# Altium footprint library SparkFun-Switches.PCBLIB: 68 footprints (part 7 of 7)
Each footprint in its own frame and in the unit in brackets; x right, y up, seen from the top. Pads: shape width x height; smd on the part's side, far side on the other; paste and mask are expansions set on the pad; w line width, h text height; cw(c..) or ccw(c..) is an arc to the next point about the centre after c.
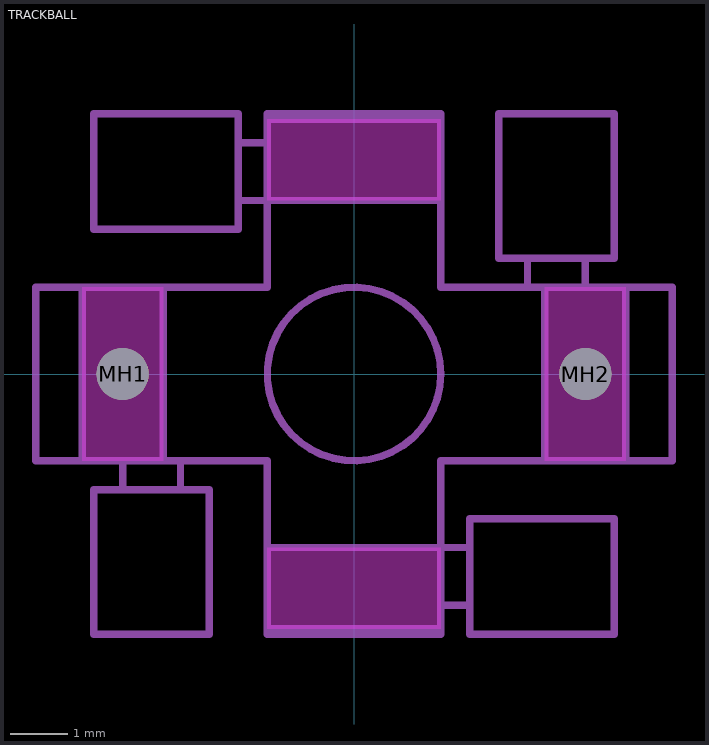
[diagram p6: the footprint, top view; thin cyan lines are the x and y axes]

## TRACKBALL [mm]
pads (2):
  round 0.9 hole 0.9 unplated: MH1(-4,0) MH2(4,0)
Top keep-out:
  region: -4.7,-1.5 -4.7,1.5 -3.3,1.5 -3.3,-1.5
  region: -1.5,3 -1.5,4.4 1.5,4.4 1.5,3
  region: 3.3,-1.5 3.3,1.5 4.7,1.5 4.7,-1.5
  region: -1.5,-4.4 -1.5,-3 1.5,-3 1.5,-4.4
tDocu:
  circle w0.127: c0,0 r1.5
  lines w0.127: -4,-2 -4,-1.5 ; -3,-2 -3,-1.5 ; -2,3 -1.5,3 ; -2,4 -1.5,4 ; 2,-4 1.5,-4 ; 2,-3 1.5,-3 ; 3,2 3,1.5 ; 4,2 4,1.5 ; -4,-1.5 -5.5,-1.5 -5.5,1.5 -1.5,1.5 -1.5,3 ; -4,-1.5 -3,-1.5 ; -3,-1.5 -1.5,-1.5 -1.5,-4.5 1.5,-4.5 1.5,-4 ; -1.5,3 -1.5,4 ; -1.5,4 -1.5,4.5 1.5,4.5 1.5,1.5 3,1.5 ; 1.5,-4 1.5,-3 ; 1.5,-3 1.5,-1.5 5.5,-1.5 5.5,1.5 4,1.5 ; 3,1.5 4,1.5
Measures:
  lines w0.127: -4.7,-1.5 -4.7,1.5 -3.3,1.5 -3.3,-1.5 -4.7,-1.5 ; -4.5,-4.5 -2.5,-4.5 -2.5,-2 -4.5,-2 -4.5,-4.5 ; -4.5,2.5 -2,2.5 -2,4.5 -4.5,4.5 -4.5,2.5 ; -1.5,-4.4 1.5,-4.4 1.5,-3 -1.5,-3 -1.5,-4.4 ; -1.5,3 1.5,3 1.5,4.4 -1.5,4.4 -1.5,3 ; 2,-4.5 2,-2.5 4.5,-2.5 4.5,-4.5 2,-4.5 ; 2.5,2 4.5,2 4.5,4.5 2.5,4.5 2.5,2 ; 3.3,-1.5 4.7,-1.5 4.7,1.5 3.3,1.5 3.3,-1.5